# Altium footprint library SM_D2PAK-5.PcbLib: 1 footprints
Each footprint in its own frame and in the unit in brackets; x right, y up, seen from the top. Pads: shape width x height; smd on the part's side, far side on the other; paste and mask are expansions set on the pad; w line width, h text height; cw(c..) or ccw(c..) is an arc to the next point about the centre after c.
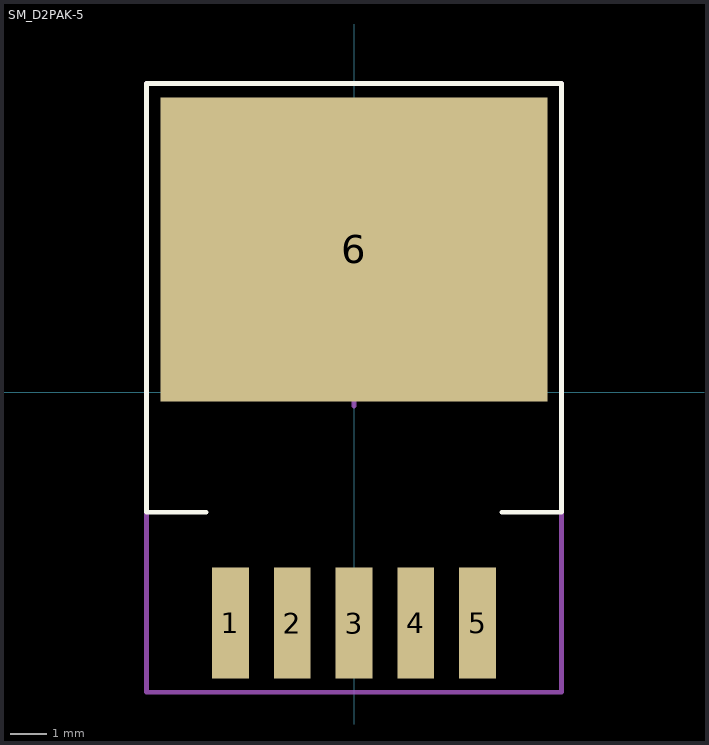
[diagram p0: the footprint, top view; thin cyan lines are the x and y axes]

## SM_D2PAK-5 [mil] "TO263-5"
pads (6):
  rect 40x120 smd mask+3: 1(-134,-250) 2(-67,-250) 3(0,-250) 4(67,-250) 5(134,-250)
  rect 420x330 smd mask+3: 6(0,155)
Top Overlay:
  lines w5: -160,-130 -225,-130 -225,335 225,335 225,-130 160,-130
Mechanical 15:
  lines w5: -15,0 15,0 ; 0,-15 0,15 ; -225,-325 225,-325 225,335 -225,335 -225,-325
3D body "User Library-D²PAK TO-263-5.step": height 191.73, standoff 0, extent -199.99,-280.15 200.01,280.09